# Altium footprint library SFH11-PBPC-D17-ST-BK.PcbLib: 1 footprints
Each footprint in its own frame and in the unit in brackets; x right, y up, seen from the top. Pads: shape width x height; smd on the part's side, far side on the other; paste and mask are expansions set on the pad; w line width, h text height; cw(c..) or ccw(c..) is an arc to the next point about the centre after c.
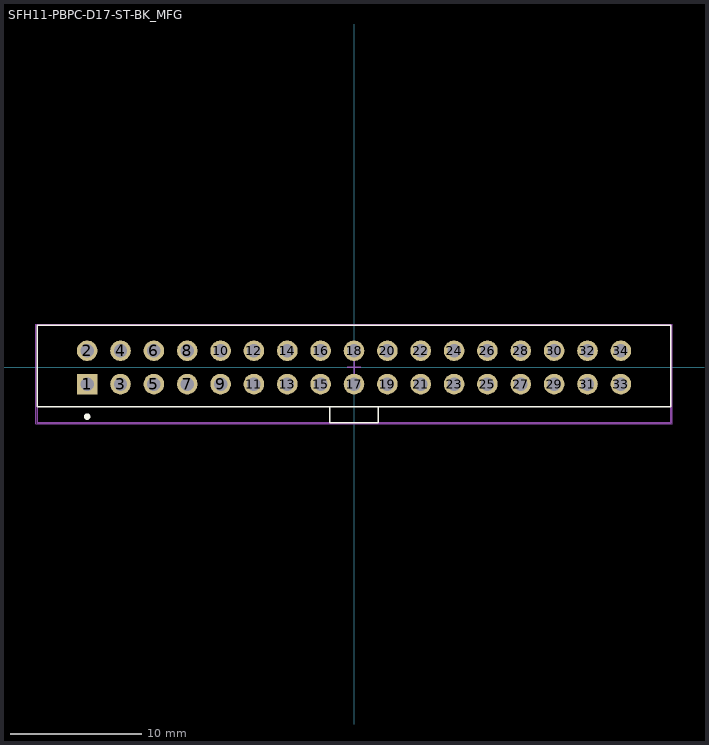
[diagram p0: the footprint, top view; thin cyan lines are the x and y axes]

## SFH11-PBPC-D17-ST-BK_MFG [mm] "Recommended Land Pattern"
height 8.7
pads (34):
  rect 1.57x1.57 hole 1.02: 1(-20.32,-1.27)
  round 1.57 hole 1.02: 2(-20.32,1.27) 3(-17.78,-1.27) 4(-17.78,1.27) 5(-15.24,-1.27) 6(-15.24,1.27) 7(-12.7,-1.27) 8(-12.7,1.27) 9(-10.16,-1.27) 10(-10.16,1.27) 11(-7.62,-1.27) 12(-7.62,1.27) 13(-5.08,-1.27) 14(-5.08,1.27) 15(-2.54,-1.27) 16(-2.54,1.27) 17(0,-1.27) 18(0,1.27) 19(2.54,-1.27) 20(2.54,1.27) 21(5.08,-1.27) 22(5.08,1.27) 23(7.62,-1.27) 24(7.62,1.27) 25(10.16,-1.27) 26(10.16,1.27) 27(12.7,-1.27) 28(12.7,1.27) 29(15.24,-1.27) 30(15.24,1.27) 31(17.78,-1.27) 32(17.78,1.27) 33(20.32,-1.27) 34(20.32,1.27)
Top Overlay:
  circle w0.25: c-20.32,-3.745 r0.125
  lines w0.127: -24.13,-3 -24.13,3.2 24.13,3.2 24.13,-3 -24.13,-3 ; -1.85,-4.2 -1.85,-3 1.85,-3 1.85,-4.2 -1.85,-4.2
Top Assembly:
  lines w0.1: -24.13,-4.2 -24.13,3.2 24.13,3.2 24.13,-4.2 -24.13,-4.2
Top Designator:
  text ".Designator" at 0,-0.5 h1
Top Courtyard:
  lines w0.05: -24.23,-4.3 -24.23,3.3 24.23,3.3 24.23,-4.3 -24.23,-4.3
Top Component Center (Mech17):
  lines w0.1: -0.5,0 0.5,0 ; 0,-0.5 0,0.5
3D body "SFH11-PBPC-D17-ST-BK.STEP": height 8.7, standoff -3.4, extent -24.13,-4 24.13,3